# Altium footprint library Chip_kz85.PcbLib: 314 footprints (part 5 of 20)
Each footprint in its own frame and in the unit in brackets; x right, y up, seen from the top. Pads: shape width x height; smd on the part's side, far side on the other; paste and mask are expansions set on the pad; w line width, h text height; cw(c..) or ccw(c..) is an arc to the next point about the centre after c.
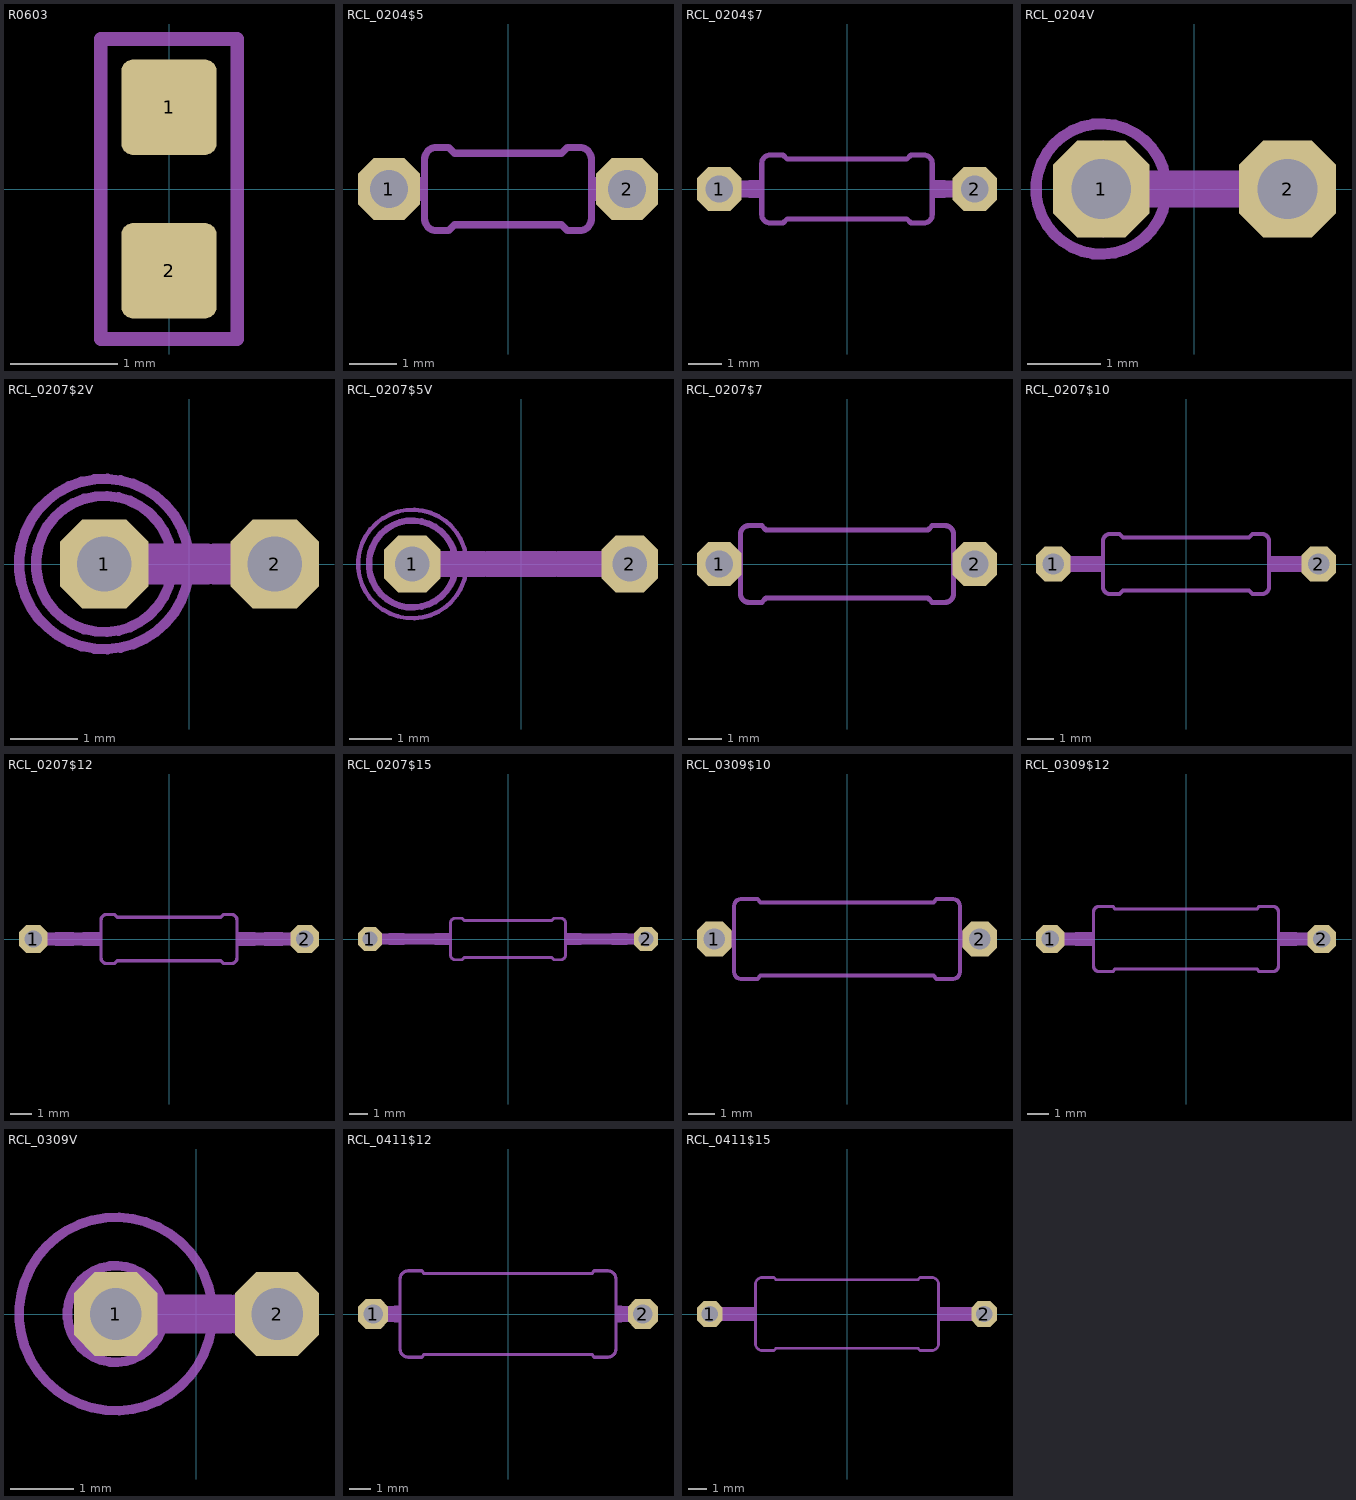
[diagram p4: the footprints below, top view; thin cyan lines are the x and y axes]

## PCBComponent_1 - duplicate2 [mil]

## R0603 [mil]
pads (2):
  rrect25% 35x35 smd: 1(0,30) 2(0,-30)
Mechanical 7:
  lines w5: -25,-55 25,-55 25,55 -25,55 -25,-55

## RCL_0204$5 [mil]
pads (2):
  oct 52x52 / inner round 48.04 / far side oct 52x52 hole 32: 1(-100,0) 2(100,0)
Mechanical 3:
  region: -80,-10 -80,10 -70,10 -70,-10
  region: 70,-10 70,10 80,10 80,-10
  lines w6: -70,-25 -70,25 ; 70,-25 70,25
  lines w20: -100,0 -80,0 ; 80,0 100,0
Mechanical 7:
  lines w6: -70,-25 ccw(c-60,-25) -60,-35 -50,-35 -45,-30 45,-30 50,-35 60,-35 ccw(c60,-25) 70,-25 ; -70,25 cw(c-60,25) -60,35 -50,35 -45,30 45,30 50,35 60,35 cw(c60,25) 70,25

## RCL_0204$7 [mil]
pads (2):
  oct 52x52 / inner round 48.04 / far side oct 52x52 hole 32: 1(-150,0) 2(150,0)
Mechanical 3:
  lines w20: -150,0 -115,0 ; 115,0 150,0
Mechanical 7:
  region: 100,-10 100,10 115,10 115,-10
  region: -115,-10 -115,10 -100,10 -100,-10
  lines w6: -100,-30 ccw(c-90,-30) -90,-40 -75,-40 -70,-35 70,-35 75,-40 90,-40 ccw(c90,-30) 100,-30 100,30 ccw(c90,30) 90,40 75,40 70,35 -70,35 -75,40 -90,40 ccw(c-90,30) -100,30 -100,-30

## RCL_0204V [mil]
pads (2):
  oct 52x52 / inner round 48.04 / far side oct 52x52 hole 32: 1(-50,0) 2(50,0)
Mechanical 3:
  circle w6: c-50,0 r35
  circle w2: c-50,0 r25
  lines w20: -50,0 50,0
Mechanical 7:
  lines w20: -5,0 5,0

## RCL_0207$2V [mil]
pads (2):
  oct 52x52 / inner round 48.04 / far side oct 52x52 hole 32: 1(-50,0) 2(50,0)
Mechanical 3:
  circle w6: c-50,0 r40
  lines w24: -50,0 -15,0 ; 15,0 50,0
Mechanical 7:
  circle w6: c-50,0 r50
  lines w24: -10,0 10,0

## RCL_0207$5V [mil]
pads (2):
  oct 52x52 / inner round 48.04 / far side oct 52x52 hole 32: 1(-100,0) 2(100,0)
Mechanical 3:
  circle w6: c-100,0 r40
  lines w24: -100,0 -35,0 ; 35,0 100,0
Mechanical 7:
  circle w4: c-100,0 r50
  lines w24: -30,0 30,0

## RCL_0207$7 [mil]
pads (2):
  oct 52x52 / inner round 48.04 / far side oct 52x52 hole 32: 1(-150,0) 2(150,0)
Mechanical 3:
  region: -135,-12 -135,12 -125,12 -125,-12
  region: 125,-12 125,12 135,12 135,-12
  lines w6: -125,-35 -125,35 ; 125,-35 125,35
  lines w24: -150,0 -135,0 ; 135,0 150,0
Mechanical 7:
  lines w6: -125,-35 ccw(c-115,-35) -115,-45 -100,-45 -95,-40 95,-40 100,-45 115,-45 ccw(c115,-35) 125,-35 ; -125,35 cw(c-115,35) -115,45 -100,45 -95,40 95,40 100,45 115,45 cw(c115,35) 125,35

## RCL_0207$10 [mil]
pads (2):
  oct 52x52 / inner round 48.04 / far side oct 52x52 hole 32: 1(-200,0) 2(200,0)
Mechanical 3:
  lines w24: -200,0 -160,0 ; 160,0 200,0
Mechanical 7:
  region: 125,-12 125,12 159,12 159,-12
  region: -159,-12 -159,12 -125,12 -125,-12
  lines w6: -125,-35 ccw(c-115,-35) -115,-45 -100,-45 -95,-40 95,-40 100,-45 115,-45 ccw(c115,-35) 125,-35 125,35 ccw(c115,35) 115,45 100,45 95,40 -95,40 -100,45 -115,45 ccw(c-115,35) -125,35 -125,-35

## RCL_0207$12 [mil]
pads (2):
  oct 52x52 / inner round 48.04 / far side oct 52x52 hole 32: 1(-250,0) 2(250,0)
Mechanical 3:
  lines w24: -250,0 -210,0 ; 210,0 250,0
Mechanical 7:
  region: 125,-12 125,12 159,12 159,-12
  region: -159,-12 -159,12 -125,12 -125,-12
  region: 175,-12 175,12 209,12 209,-12
  region: -209,-12 -209,12 -175,12 -175,-12
  lines w6: -125,-35 ccw(c-115,-35) -115,-45 -100,-45 -95,-40 95,-40 100,-45 115,-45 ccw(c115,-35) 125,-35 125,35 ccw(c115,35) 115,45 100,45 95,40 -95,40 -100,45 -115,45 ccw(c-115,35) -125,35 -125,-35
  lines w24: -175,0 -160,0 ; 160,0 175,0

## RCL_0207$15 [mil]
pads (2):
  oct 52x52 / inner round 48.04 / far side oct 52x52 hole 32: 1(-300,0) 2(300,0)
Mechanical 3:
  lines w24: -300,0 -260,0 ; 260,0 300,0
Mechanical 7:
  region: -259,-12 -259,12 -225,12 -225,-12
  region: 225,-12 225,12 259,12 259,-12
  region: -159,-12 -159,12 -125,12 -125,-12
  region: 125,-12 125,12 159,12 159,-12
  lines w6: -125,-35 ccw(c-115,-35) -115,-45 -100,-45 -95,-40 95,-40 100,-45 115,-45 ccw(c115,-35) 125,-35 125,35 ccw(c115,35) 115,45 100,45 95,40 -95,40 -100,45 -115,45 ccw(c-115,35) -125,35 -125,-35
  lines w24: -225,0 -160,0 ; 160,0 225,0

## RCL_0309$10 [mil]
pads (2):
  oct 52x52 / inner round 48.04 / far side oct 52x52 hole 32: 1(-200,0) 2(200,0)
Mechanical 3:
  region: -182,-12 -182,12 -170,12 -170,-12
  region: 170,-12 170,12 182,12 182,-12
  lines w6: -170,-50 -170,50 ; 170,-50 170,50
  lines w24: -200,0 -185,0 ; 185,0 200,0
Mechanical 7:
  lines w6: -170,-50 ccw(c-160,-50) -160,-60 -135,-60 -130,-55 130,-55 135,-60 160,-60 ccw(c160,-50) 170,-50 ; -170,50 cw(c-160,50) -160,60 -135,60 -130,55 130,55 135,60 160,60 cw(c160,50) 170,50

## RCL_0309$12 [mil]
pads (2):
  oct 52x52 / inner round 48.04 / far side oct 52x52 hole 32: 1(-250,0) 2(250,0)
Mechanical 3:
  lines w24: -250,0 -200,0 ; 200,0 250,0
Mechanical 7:
  region: -204,-12 -204,12 -170,12 -170,-12
  region: 170,-12 170,12 204,12 204,-12
  lines w6: -170,-50 ccw(c-160,-50) -160,-60 -135,-60 -130,-55 130,-55 135,-60 160,-60 ccw(c160,-50) 170,-50 170,50 ccw(c160,50) 160,60 135,60 130,55 -130,55 -135,60 -160,60 ccw(c-160,50) -170,50 -170,-50

## RCL_0309V [mil]
pads (2):
  oct 52x52 / inner round 48.04 / far side oct 52x52 hole 32: 1(-50,0) 2(50,0)
Mechanical 3:
  circle w6: c-50,0 r30
  region: -25,-12 -25,12 -13,12 -13,-12
  region: 10,-12 10,12 22,12 22,-12
  lines w24: -50,0 -25,0 ; 25,0 50,0
Mechanical 7:
  circle w6: c-50,0 r60
  region: -13,-12 -13,12 10,12 10,-12

## RCL_0411$12 [mil]
pads (2):
  oct 56x56 / inner round 51.74 / far side oct 56x56 hole 36: 1(-250,0) 2(250,0)
Mechanical 3:
  lines w30: -250,0 -215,0 ; 215,0 250,0
Mechanical 7:
  region: 200,-15 200,15 211,15 211,-15
  region: -211,-15 -211,15 -200,15 -200,-15
  lines w6: -200,-65 ccw(c-185,-65) -185,-80 -160,-80 -155,-75 155,-75 160,-80 185,-80 ccw(c185,-65) 200,-65 200,65 ccw(c185,65) 185,80 160,80 155,75 -155,75 -160,80 -185,80 ccw(c-185,65) -200,65 -200,-65

## RCL_0411$15 [mil]
pads (2):
  oct 56x56 / inner round 51.74 / far side oct 56x56 hole 36: 1(-300,0) 2(300,0)
Mechanical 3:
  lines w30: -300,0 -250,0 ; 250,0 300,0
Mechanical 7:
  region: -255,-15 -255,15 -200,15 -200,-15
  region: 200,-15 200,15 255,15 255,-15
  lines w6: -200,-65 ccw(c-185,-65) -185,-80 -160,-80 -155,-75 155,-75 160,-80 185,-80 ccw(c185,-65) 200,-65 200,65 ccw(c185,65) 185,80 160,80 155,75 -155,75 -160,80 -185,80 ccw(c-185,65) -200,65 -200,-65